# EAGLE library part PWM_EXTENDER-SIMPLE (library BlueShift)
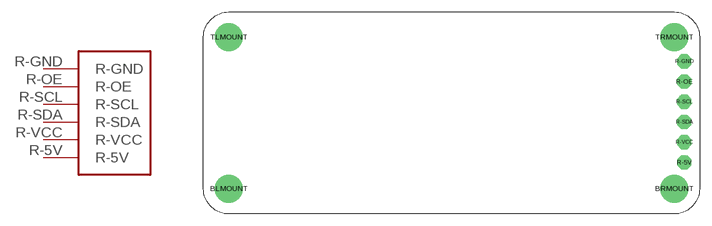
[diagram p4: symbol with the pads of PWM_EXTENDER-SIMPLE; footprint PWM_EXTENDER-SIMPLE]

Designator prefix PWM

## PWM_EXTENDER-SIMPLE  [PWM_EXTENDER-SIMPLE]
R-5V  R-5V
R-GND  R-GND
R-OE  R-OE
R-SCL  R-SCL
R-SDA  R-SDA
R-VCC  R-VCC

## Footprint PWM_EXTENDER-SIMPLE (pad centres in mm)
drill 2.489 pad 3.2: BLMOUNT 1.27,-3.302; BRMOUNT 57.15,-3.302; TLMOUNT 1.27,15.748; TRMOUNT 57.15,15.748
drill 1.016 pad 1.778 octagon: R-5V 58.42,0; R-GND 58.42,12.7; R-OE 58.42,10.16; R-SCL 58.42,7.62; R-SDA 58.42,5.08; R-VCC 58.42,2.54